# Altium footprint library BM08B-NSHSS-TBT.PcbLib: 1 footprints
Each footprint in its own frame and in the unit in brackets; x right, y up, seen from the top. Pads: shape width x height; smd on the part's side, far side on the other; paste and mask are expansions set on the pad; w line width, h text height; cw(c..) or ccw(c..) is an arc to the next point about the centre after c.
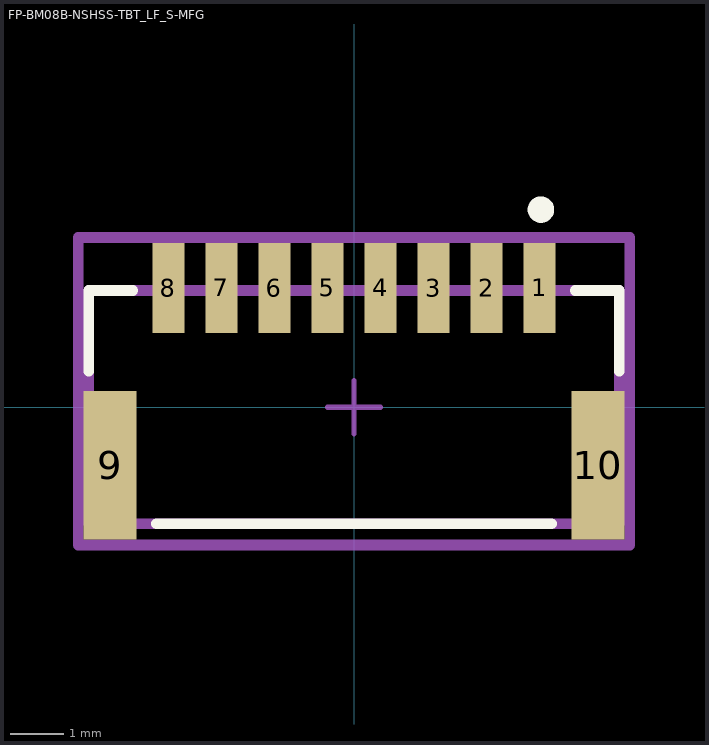
[diagram p0: the footprint, top view; thin cyan lines are the x and y axes]

## FP-BM08B-NSHSS-TBT_LF_S-MFG [mm]
pads (10):
  rect 0.6x1.7 smd paste+0 mask+0: 1(3.5,2.25) 2(2.5,2.25) 3(1.5,2.25) 4(0.5,2.25) 5(-0.5,2.25) 6(-1.5,2.25) 7(-2.5,2.25) 8(-3.5,2.25)
  rect 1x2.8 smd paste+0 mask+0: 9(-4.6,-1.1) 10(4.6,-1.1)
Top Overlay:
  circle w0.25: c3.525,3.725 r0.125
  lines w0.2: -5,0.675 -5,2.2 -4.175,2.2 ; -3.725,-2.2 3.725,-2.2 ; 4.175,2.2 5,2.2 5,0.675
Top Assembly:
  lines w0.2: -5.2,-2.6 -5.2,3.2 5.2,3.2 5.2,-2.6 -5.2,-2.6
  text ".Designator" at 0,0.488 h1
Top 3D Body:
  lines w0.2: -5,-2.2 -5,2.2 5,2.2 5,-2.2 -5,-2.2
Top Courtyard:
  lines w0.2: -5.2,-2.6 -5.2,3.2 5.2,3.2 5.2,-2.6 -5.2,-2.6
Top Component Center:
  lines w0.1: -0.5,0 0.5,0 ; 0,-0.5 0,0.5
3D body "Conn_JST_BM08B-NSHSS-TBT_LF_SN_eec.STEP": height 0.25, standoff 0, extent -5.2,-2.6 5.2,3.2